# EAGLE library part SN74HC32 (library ICs)
QUADRUPLE 2-INPUT POSITIVE-OR GATES
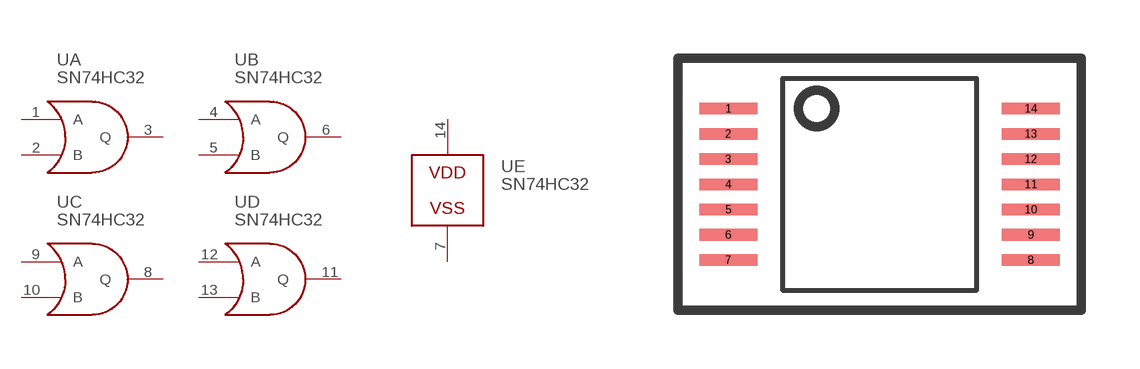
[diagram p27: symbol with the pads of SSOP14; footprint SSOP14]

Designator prefix U; gates A=OR C=OR B=OR D=OR E=PWR

## SN74HC32PW (FARNELL: 2342493)  [SSOP14]
1  A:A
2  A:B
3  A:Q
4  B:A
5  B:B
6  B:Q
7  E:GND
8  C:Q
9  C:A
10  C:B
11  D:Q
12  D:A
13  D:B
14  E:V+

## Footprint SSOP14 (pad centres in mm)
smd 1.5 x 0.3: 1 -3.9,1.95; 2 -3.9,1.3; 3 -3.9,0.65; 4 -3.9,0; 5 -3.9,-0.65; 6 -3.9,-1.3; 7 -3.9,-1.95; 8 3.9,-1.95; 9 3.9,-1.3; 10 3.9,-0.65; 11 3.9,0; 12 3.9,0.65; 13 3.9,1.3; 14 3.9,1.95